# Altium schematic symbol library SCH_Sensor.SchLib: 14 symbols
Pins are listed as number, name and electrical type; pins without a type are passive.

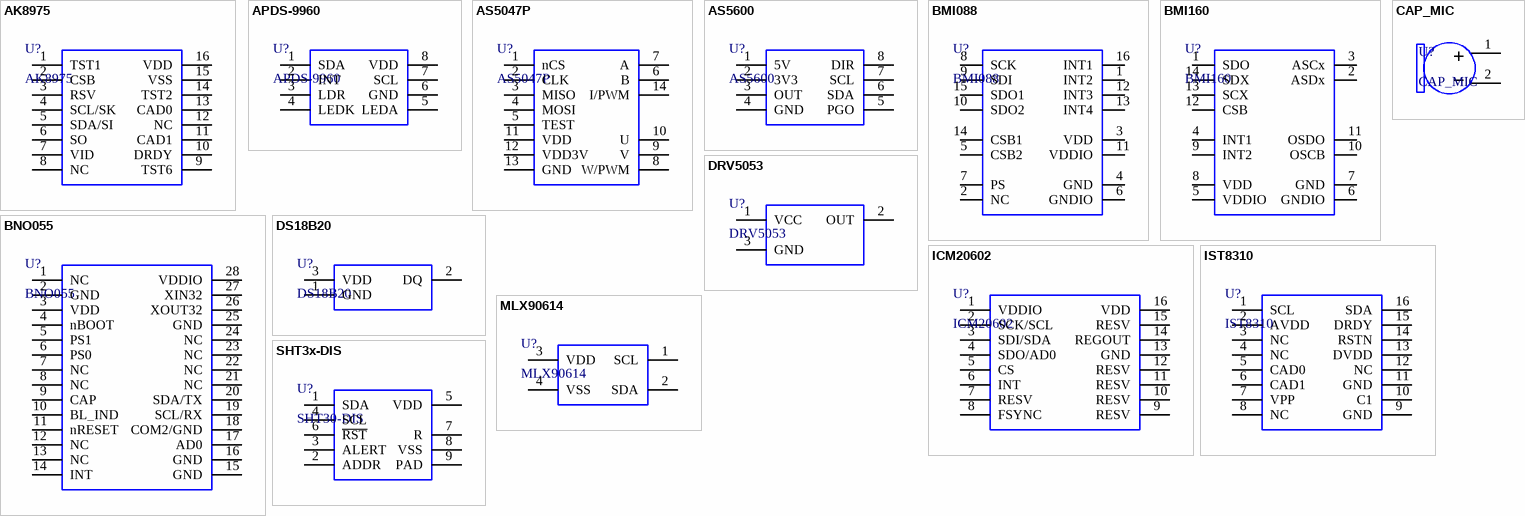
[diagram p0: symbols AK8975 to SHT3x-DIS]

## AK8975
designator U?
3 Axis Digtial Magnetometer; Type: LGA16 P0.5
footprint QFN-16-NEP-3.0X3.0-P0.5
pins: 1 TST1, 2 CSB, 3 RSV, 4 SCL/SK, 5 SDA/SI, 6 SO, 7 VID, 8 NC, 9 TST6, 10 DRDY, 11 CAD1, 12 NC, 13 CAD0, 14 TST2, 15 VSS, 16 VDD

## APDS-9960
designator U?
Digital Proximity, Ambient Light, RGB and Gesture Sensor
footprint DFN-8-3.94X2.36
pins: 1 SDA, 2 INT, 3 LDR, 4 LEDK, 5 LEDA, 6 GND, 7 SCL, 8 VDD

## AS5047P
designator U?
14-bit on axis magnetic rotary position sensor
footprint TSSOP-14-P0.65
pins: 1 nCS, 2 CLK, 3 MISO, 4 MOSI, 5 TEST, 6 B, 7 A, 8 W/PWM, 9 V, 10 U, 11 VDD, 12 VDD3V, 13 GND, 14 I/PWM

## AS5600
designator U?
12-Bit Programmable Contactless Potentiometer
footprint SOP-8-P1.27
pins: 1 5V, 2 3V3, 3 OUT, 4 GND, 5 PGO, 6 SDA, 7 SCL, 8 DIR

## BMI088
designator U?
6-axis Motion Tracking
footprint LGA-16-4.5X3.0-P0.5
pins: 1 INT2, 2 NC, 3 VDD, 4 GND, 5 CSB2, 6 GNDIO, 7 PS, 8 SCK, 9 SDI, 10 SDO2, 11 VDDIO, 12 INT3, 13 INT4, 14 CSB1, 15 SDO1, 16 INT1

## BMI160
designator U?
low power IMU
footprint LGA-14-2.5X3.0-P0.5
pins: 1 SDO, 2 ASDx, 3 ASCx, 4 INT1, 5 VDDIO, 6 GNDIO, 7 GND, 8 VDD, 9 INT2, 10 OSCB, 11 OSDO, 12 CSB, 13 SCX, 14 SDX

## BNO055
designator U?
Intelligent 9-axis absolute orientation sensor; Type: LGA16 P0.5
footprint LGA-28-5.2X3.8-P0.5
pins: 1 NC, 2 GND, 3 VDD, 4 nBOOT "Bootloader  mode select pin (active low)", 5 PS1 "Protocol select pin 1", 6 PS0 "Protocol select pin 0", 7 NC, 8 NC, 9 CAP "External capacitor", 10 BL_IND "Bootloader indicator", 11 nRESET "Reset pin (active low)", 12 NC, 13 NC, 14 INT "Interrupt output", 15 GND, 16 GND, 17 AD0 "I2C Address Select", 18 COM2/GND "I2C Address Select", 19 SCL/RX, 20 SDA/TX, 21 NC, 22 NC, 23 NC, 24 NC, 25 GND, 26 XOUT32 "Optional OSC port", 27 XIN32 "Optional OSC port", 28 VDDIO

## CAP_MIC
designator U?
footprint MIC_4.0X1.5
pins: 1 +, 2 -

## DRV5053
designator U?
High voltage (up to 38V), linear hall effect sensor
footprint SOT-23-3
pins: 1 VCC, 2 OUT, 3 GND

## DS18B20
designator U?
Onewire Temperature Sensor
footprint TO-92
pins: 1 GND, 2 DQ, 3 VDD

## ICM20602
designator U?
High Performance 6-Axis MEMS MotionTracking™ Device; Type: LGA16 P0.5
footprint LGA-16-3.0X3.0-P0.5
pins: 1 VDDIO, 2 SCK/SCL, 3 SDI/SDA, 4 SDO/AD0, 5 CS, 6 INT, 7 RESV, 8 FSYNC, 9 RESV, 10 RESV, 11 RESV, 12 RESV, 13 GND, 14 REGOUT, 15 RESV, 16 VDD

## IST8310
designator U?
3 Axis Digtial Magnetometer; Type: LGA16 P0.5
footprint QFN-16-NEP-3.0X3.0-P0.5
pins: 1 SCL, 2 AVDD, 3 NC, 4 NC, 5 CAD0, 6 CAD1, 7 VPP, 8 NC, 9 GND, 10 C1, 11 GND, 12 NC, 13 DVDD, 14 RSTN, 15 DRDY, 16 SDA

## MLX90614
designator U?
Infra Red Thermometer in TO-39
footprint MLX90614-TO39
pins: 1 SCL, 2 SDA, 3 VDD, 4 VSS

## SHT3x-DIS
designator U?, comment SHT30-DIS
Humidity and Temperature Sensor
footprint SHT3X-DFN8 (SON, 8-Leads, Body 2.50x2.50mm, Pitch 0.50mm, Thermal Pad 1.60x0.88mm, IPC High Density)
pins: 1 SDA, 2 ADDR, 3 ALERT, 4 SCL, 5 VDD, 6 ~{RST}, 7 R, 8 VSS, 9 PAD